# EAGLE library part TCS3103 (library BEEP)
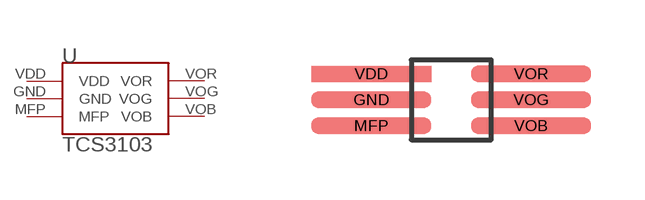
[diagram p5: symbol with the pads of TCS3103; footprint TCS3103]

Designator prefix -

## TCS3103  [TCS3103]
GND  GND  pwr
MFP  MFP  in
VDD  VDD  pwr
VOB  VOB  out
VOG  VOG  out
VOR  VOR  out

## Footprint TCS3103 (pad centres in mm)
smd 3 x 0.4: GND -2,0; MFP -2,-0.65; VDD -2,0.65; VOB 2,-0.65; VOG 2,0; VOR 2,0.65